# EAGLE library part SI9110DJ-E3 (library Vishay)
High-Voltage Switchmode Controllers
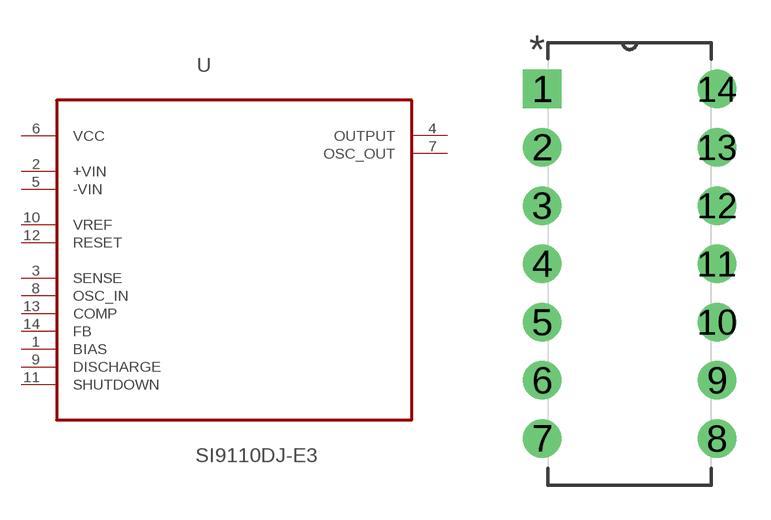
[diagram p95: symbol with the pads of DIP254P762X508-14; footprint DIP254P762X508-14]

Designator prefix U

## SI9110DJ-E3 (MPN: SI9110DJ-E3; OC_FARNELL: 1469450; OC_NEWARK: 57J5772; PACKAGE: PDIP-14; SUPPLIER: VISHAY SILICONIX)  [DIP254P762X508-14]
1  BIAS  in
2  +VIN  in
3  SENSE  in
4  OUTPUT  out
5  -VIN  in
6  VCC  pwr
7  OSC_OUT  out
8  OSC_IN  in
9  DISCHARGE  pas
10  VREF  in
11  SHUTDOWN  in
12  RESET  in
13  COMP  in
14  FB  in

## Footprint DIP254P762X508-14 (pad centres in mm)
drill 1.118 square: 1 -7.62,15.24
drill 1.118: 2 -7.62,12.7; 3 -7.62,10.16; 4 -7.62,7.62; 5 -7.62,5.08; 6 -7.62,2.54; 7 -7.62,0; 8 0,0; 9 0,2.54; 10 0,5.08; 11 0,7.62; 12 0,10.16; 13 0,12.7; 14 0,15.24